# Altium footprint library 28Pins_Project_V1I1_v2.PcbLib: 11 footprints
Each footprint in its own frame and in the unit in brackets; x right, y up, seen from the top. Pads: shape width x height; smd on the part's side, far side on the other; paste and mask are expansions set on the pad; w line width, h text height; cw(c..) or ccw(c..) is an arc to the next point about the centre after c.
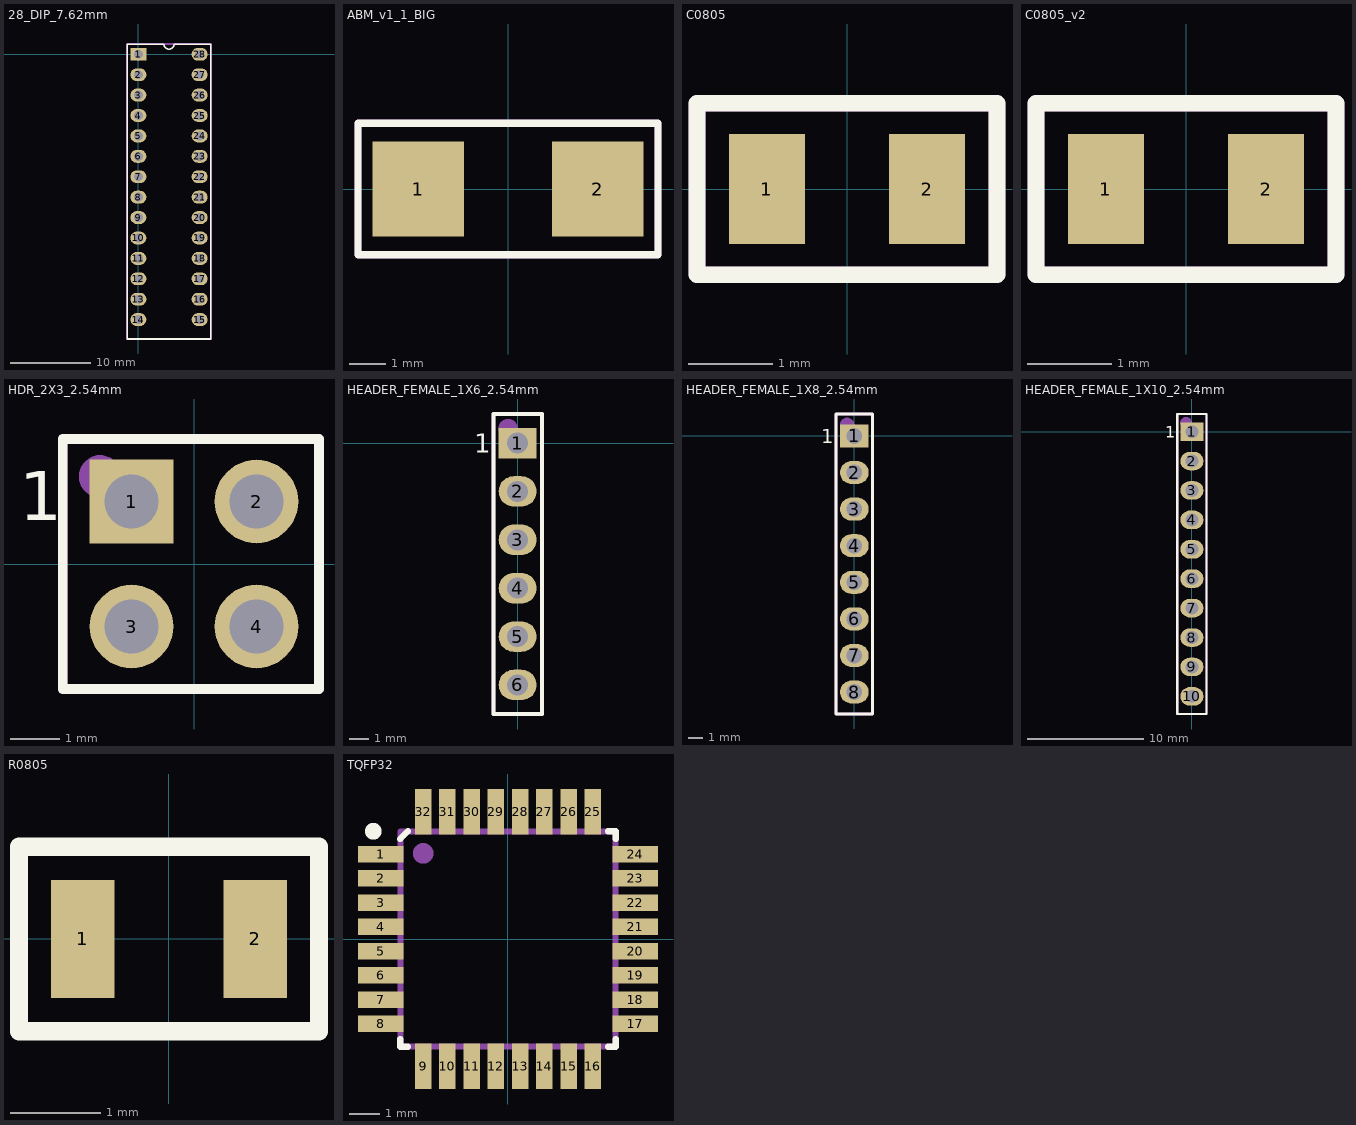
[diagram p0: the footprints below, top view; thin cyan lines are the x and y axes]

## 28_DIP_7.62mm [mm]
pads (28):
  rect 2x1.6 hole 1.1: 1(0,0)
  oval 2x1.6 hole 1.1: 2(0,-2.54) 3(0,-5.08) 4(0,-7.62) 5(0,-10.16) 6(0,-12.7) 7(0,-15.24) 8(0,-17.78) 9(0,-20.32) 10(0,-22.86) 11(0,-25.4) 12(0,-27.94) 13(0,-30.48) 14(0,-33.02) 15(7.62,-33.02) 16(7.62,-30.48) 17(7.62,-27.94) 18(7.62,-25.4) 19(7.62,-22.86) 20(7.62,-20.32) 21(7.62,-17.78) 22(7.62,-15.24) 23(7.62,-12.7) 24(7.62,-10.16) 25(7.62,-7.62) 26(7.62,-5.08) 27(7.62,-2.54) 28(7.62,0)
Top Overlay:
  lines w0.2: -1.397,-35.433 -1.397,1.27 3.175,1.27 ccw(c3.81,1.27) 4.445,1.27 9.017,1.27 9.017,-35.433 -1.397,-35.433
Mechanical 29:
  circle w0.5: c0,0 r0.508
  lines w0.254: -1.397,-35.433 9.017,-35.433 9.017,1.27 -1.397,1.27 -1.397,-35.433
  text ".Designator" at 4.318,-20.955 h3
3D body "User Library-28 pin dip.step": height 4.85, standoff -1.37, extent -0.254,-34.481 7.62,1.461

## ABM_v1_1_BIG [mm]
pads (2):
  rect 2.5x2.6 smd: 1(-2.45,0) 2(2.45,0)
Top Overlay:
  lines w0.2: -4.1,-1.8 -4.1,-0.2 -4.1,1.8 -2.45,1.8 2.25,1.8 4.1,1.8 4.1,-1.8 2.45,-1.8 -2.45,-1.8 -4.1,-1.8
Mechanical 29:
  lines w0.2: -4.1,-1.8 4.1,-1.8 4.1,1.8 -4.1,1.8 -4.1,-1.8
  text ".Designator" at -3.2,-0.3 h1.52
3D body "ABM7.STEP": height 1.41, standoff 0.01, extent -2.897,-1.752 3.097,1.753
3D body: height 1.45, standoff 1.4, extent -2.4,-1.4 2.6,1.4

## C0805 [mm]
pads (2):
  rect 0.9x1.3 smd: 1(-0.95,0) 2(0.95,0)
Top Overlay:
  lines w0.2: -1.778,-1.016 1.778,-1.016 1.778,1.016 -1.778,1.016 -1.778,-1.016
Mechanical 29:
  lines w0.2: -1.778,-1.016 1.778,-1.016 1.778,1.016 -1.778,1.016 -1.778,-1.016
  text ".Designator" at -1.27,-0.254 h0.6
3D body "CAPC2012X94N EIA 0805.step": height 0.95, standoff 0.01, extent -1,-0.508 1,0.692

## C0805_v2 [mm]
pads (2):
  rect 0.9x1.3 smd: 1(-0.95,0) 2(0.95,0)
Top Overlay:
  lines w0.2: -1.778,-1.016 1.778,-1.016 1.778,1.016 -1.778,1.016 -1.778,-1.016
Mechanical 29:
  lines w0.2: -1.778,-1.016 1.778,-1.016 1.778,1.016 -1.778,1.016 -1.778,-1.016
  text ".Designator" at -1.27,-0.254 h0.6
3D body "CAPC2012X94N EIA 0805.step": height 1.45, standoff 0.51, extent -1,-0.6 1,0.6
3D body "CAPC2012X94N EIA 0805.step": height 0.95, standoff 0.01, extent -1,-0.6 1,0.6

## HDR_2X3_2.54mm [mm]
pads (4):
  rect 1.7x1.7 hole 1.1: 1(-1.27,1.27)
  round 1.7 hole 1.1: 2(1.27,1.27) 3(-1.27,-1.27) 4(1.27,-1.27)
Top Overlay:
  lines w0.2: -0.635,2.54 2.54,2.54 2.54,-2.54 -2.667,-2.54 -2.667,0.635 -2.667,2.54 0.635,2.54
  text "1" at -3.556,0.889 h1
Mechanical 29:
  circle w0.508: c-1.905,1.778 r0.18
  lines w0.2: -2.667,-2.54 -2.667,2.54 2.54,2.54 2.54,-2.54 -2.667,-2.54
  text ".Designator" at -0.127,-0.762 h1.52
3D body "961204-6404-XX.stp": height 7.5, standoff -3.8, extent -2.54,-2.54 2.54,2.46

## HEADER_FEMALE_1X6_2.54mm [mm]
pads (6):
  rect 2x1.6 hole 1.1: 1(0,0)
  oval 2x1.6 hole 1.1: 2(0,-2.54) 3(0,-5.08) 4(0,-7.62) 5(0,-10.16) 6(0,-12.7)
Top Overlay:
  lines w0.2: -1.27,-13.97 -1.27,1.524 0,1.524 1.27,1.524 1.27,-13.97 1.27,-14.224 ; -1.27,-13.716 -1.27,-14.224 ; -1.27,-14.224 1.27,-14.224 ; -1.27,-14.224 -0.635,-14.224 -0.318,-14.224 0.318,-14.224 0.635,-14.224 1.27,-14.224
  text "1" at -2.286,-0.508 h1
Mechanical 29:
  circle w0.5: c-0.508,0.762 r0.254
  lines w0.2: -1.27,-14.224 1.27,-14.224 1.27,1.524 -1.27,1.524 -1.27,-14.224
  text ".Designator" at 0.508,-12.446 h1.52

## HEADER_FEMALE_1X8_2.54mm [mm]
pads (8):
  rect 2x1.6 hole 1.1: 1(0,0)
  oval 2x1.6 hole 1.1: 2(0,-2.54) 3(0,-5.08) 4(0,-7.62) 5(0,-10.16) 6(0,-12.7) 7(0,-15.24) 8(0,-17.78)
Top Overlay:
  lines w0.2: -1.27,-19.304 -0.635,-19.304 0.635,-19.304 1.27,-19.304 1.27,1.524 0,1.524 -1.27,1.524 -1.27,-19.304
  text "1" at -2.286,-0.508 h1
Mechanical 29:
  circle w0.5: c-0.508,0.762 r0.254
  lines w0.2: -1.27,-19.304 1.27,-19.304 1.27,1.524 -1.27,1.524 -1.27,-19.304
  text ".Designator" at 0.508,-16.256 h1.52

## HEADER_FEMALE_1X10_2.54mm [mm]
pads (10):
  rect 2x1.6 hole 1.1: 1(0,0)
  oval 2x1.6 hole 1.1: 2(0,-2.54) 3(0,-5.08) 4(0,-7.62) 5(0,-10.16) 6(0,-12.7) 7(0,-15.24) 8(0,-17.78) 9(0,-20.32) 10(0,-22.86)
Top Overlay:
  lines w0.2: -1.27,-24.384 1.27,-24.384 1.27,1.524 0,1.524 -1.27,1.524 -1.27,-24.384
  text "1" at -2.286,-0.508 h1
Mechanical 29:
  circle w0.5: c-0.508,0.762 r0.254
  lines w0.2: -1.27,-24.384 -1.27,1.524 1.27,1.524 1.27,-24.384 -1.27,-24.384
  text ".Designator" at 0.508,-15.748 h1.52
3D body "m20-7821046_asm.stp": height 8.31, standoff -3.19, extent -1.23,-24.33 1.27,1.47

## PCBComponent_1 [mm]

## R0805 [mm]
pads (2):
  rect 0.7x1.3 smd: 1(-0.95,0) 2(0.95,0)
Top Overlay:
  lines w0.2: -1.651,-1.016 1.651,-1.016 1.651,1.016 -1.651,1.016 -1.651,0 -1.651,-1.016
3D body "User Library-Chip Resistor2.step": height 0.71, standoff 0.01, extent -1,-0.6 1,0.6

## TQFP32 [mm]
pads (32):
  rect 1.5x0.55 smd mask+0.06: 1(-4.2,2.8) 2(-4.2,2) 3(-4.2,1.2) 4(-4.2,0.4) 5(-4.2,-0.4) 6(-4.2,-1.2) 7(-4.2,-2) 8(-4.2,-2.8) 17(4.2,-2.8) 18(4.2,-2) 19(4.2,-1.2) 20(4.2,-0.4) 21(4.2,0.4) 22(4.2,1.2) 23(4.2,2) 24(4.2,2.8)
  rect 0.55x1.5 smd mask+0.06: 9(-2.8,-4.2) 10(-2,-4.2) 11(-1.2,-4.2) 12(-0.4,-4.2) 13(0.4,-4.2) 14(1.2,-4.2) 15(2,-4.2) 16(2.8,-4.2) 25(2.8,4.2) 26(2,4.2) 27(1.2,4.2) 28(0.4,4.2) 29(-0.4,4.2) 30(-1.2,4.2) 31(-2,4.2) 32(-2.8,4.2)
Top Overlay:
  circle w0.3: c-4.445,3.556 r0.127
  lines w0.2: -3.556,-3.302 -3.556,-3.556 -3.302,-3.556 ; -3.556,3.302 -3.302,3.556 ; 3.302,-3.556 3.556,-3.556 3.556,-3.302 ; 3.302,3.556 3.556,3.556 3.556,3.302
Mechanical 29:
  circle w0.5: c-2.8,2.825 r0.09
  lines w0.2: -3.55,-3.525 -3.525,-3.55 3.525,-3.55 3.55,-3.525 3.55,3.55 -3.55,3.55 -3.55,-3.525
  text ".Designator" at 0,-0.575 h1.8
3D body "User Library-tqfp32.step": height 1.2, standoff 0, extent -4.6,-4.6 4.599,4.599